# Altium footprint library SOD.PcbLib: 22 footprints (part 2 of 2)
Each footprint in its own frame and in the unit in brackets; x right, y up, seen from the top. Pads: shape width x height; smd on the part's side, far side on the other; paste and mask are expansions set on the pad; w line width, h text height; cw(c..) or ccw(c..) is an arc to the next point about the centre after c.
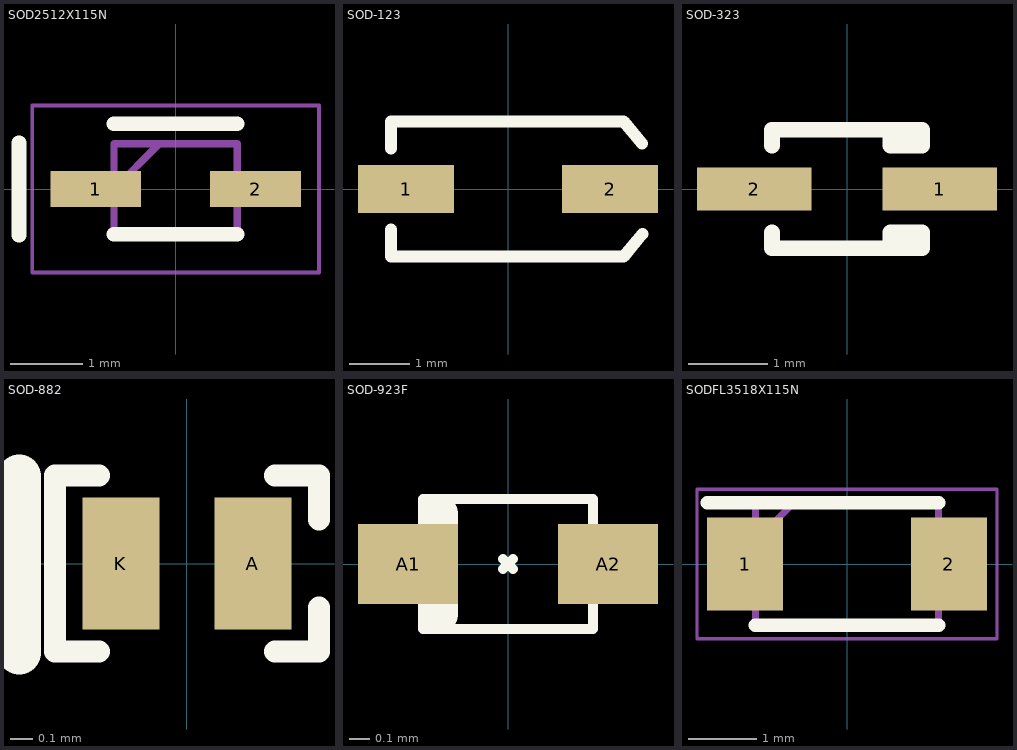
[diagram p1: the footprints below, top view; thin cyan lines are the x and y axes]

## SOD2512X115N [mm]
pads (2):
  rect 1.25x0.5 smd: 1(-1.1,0) 2(1.1,0)
Top Overlay:
  lines w0.2: -2.159,-0.635 -2.159,0.635 ; -0.85,-0.625 0.85,-0.625 ; -0.85,0.899 0.85,0.899
Mechanical 13:
  lines w0.1: -0.85,0 -0.225,0.625 ; -0.85,-0.625 0.85,-0.625 0.85,0.625 -0.85,0.625 -0.85,-0.625
Mechanical 15:
  lines w0.05: -1.975,-1.15 1.975,-1.15 1.975,1.15 -1.975,1.15 -1.975,-1.15
3D body "B5817WS-TP.stp": height 1.15, standoff 0, extent -1.25,-0.625 1.25,0.625

## SOD-123 [mm] "SOD-123; 2 Leads; Body 2.7 x 1.6 mm, (LxW)"
height 1.35
pads (2):
  rect 1.6x0.8 smd: 1(-1.7,0) 2(1.7,0)
Top Overlay:
  lines w0.2: -1.95,-0.675 -1.95,-1.125 1.928,-1.125 2.241,-0.747 ; -1.95,0.675 -1.95,1.125 1.928,1.125 2.233,0.756
3D body "SOD-123_DiodesInc.step": height 1.43, standoff -0.02, extent -1.869,-0.862 1.981,0.838

## SOD-323 [mm] "SOD-323/SC-76; 2 Leads; Body 1.7 x 1.3 mm, (LxW)"
height 1.1
pads (2):
  rect 1.45x0.55 smd: 1(1.175,0) 2(-1.175,0)
Top Overlay:
  lines w0.2: -0.95,-0.55 -0.95,-0.75 0.95,-0.75 0.95,-0.55 0.55,-0.55 0.55,-0.75 ; -0.95,0.55 -0.95,0.75 0.95,0.75 0.95,0.55 0.55,0.55 0.55,0.75

## SOD-882 [mm]
pads (2):
  rect 0.35x0.6 smd: A(0.3,0) K(-0.3,0)
Top Overlay:
  lines w0.1: -0.4,-0.4 -0.6,-0.4 -0.6,0.4 -0.4,0.4 ; 0.4,-0.4 0.6,-0.4 0.6,-0.2 ; 0.4,0.4 0.6,0.4 0.6,0.2
  lines w0.2: -0.763,-0.403 -0.763,0.397
3D body "User Library-SOD882-1.step": height 0.48, standoff -0.03, extent -0.493,-0.293 0.492,0.293

## SOD-923F [mm] "TVS DIODE 5V 18.6V 0402/SOD923F"
pads (2):
  rect 0.5x0.4 smd: A1(-0.5,0) A2(0.5,0)
Top Overlay:
  lines w0.05: -0.025,-0.025 0.025,0.025 ; -0.025,0.025 0.025,-0.025 ; -0.525,-0.125 -0.525,0.125 -0.425,0.125 -0.425,0.325 0.425,0.325 0.425,0.125 0.525,0.125 0.525,-0.125 0.425,-0.125 0.425,-0.325 -0.425,-0.325 -0.425,-0.125 -0.525,-0.125
  lines w0.2: -0.35,-0.25 -0.35,0.25
3D body "User Library-DIODE_SOD-923.step": height 0.43, standoff 0, extent -0.525,-0.325 0.525,0.325

## SODFL3518X115N [mm] "SOD-123F"
height 0.001
pads (2):
  rect 1.12x1.37 smd: 1(-1.5,0) 2(1.5,0)
Top Overlay:
  lines w0.2: -2.06,0.9 1.35,0.9 ; -1.35,-0.9 1.35,-0.9
Mechanical 13:
  lines w0.1: -1.35,0.34 -0.79,0.9 ; -1.35,-0.9 1.35,-0.9 1.35,0.9 -1.35,0.9 -1.35,-0.9
Mechanical 15:
  lines w0.05: -2.21,-1.1 2.21,-1.1 2.21,1.1 -2.21,1.1 -2.21,-1.1
3D body "B260S1F-7.stp": height 1.15, standoff 0, extent -1.75,-0.9 1.75,0.9